# Altium schematic symbol library 变压器.SchLib: 8 symbols
Pins are listed as number, name and electrical type; pins without a type are passive.

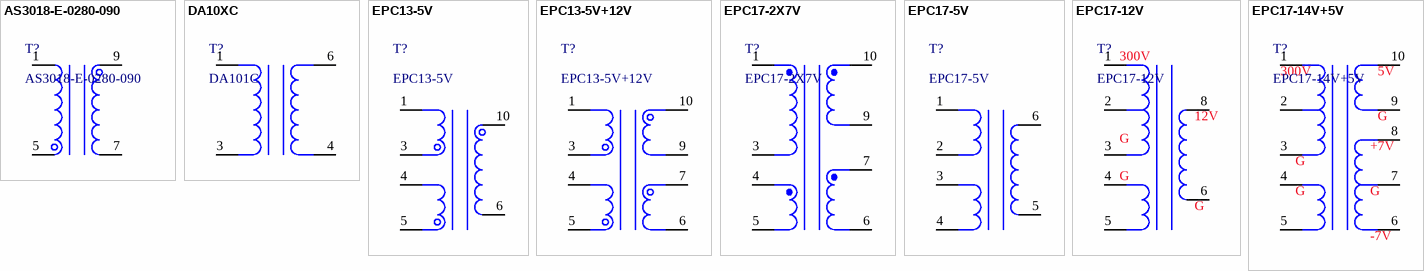
[diagram p0: symbols AS3018-E-0280-090 to EPC17-14V+5V]

## AS3018-E-0280-090
designator T?
9V 低频变压器; 版权归属: 源创客; ROM名称: 低频变压器; 学习资源: www.ooocke.com
footprint AS3018 (32mm*27.5mm*29mm(长*宽*高))
pins: 1, 5, 7, 9

## DA10XC
designator T?, comment DA101C
数字隔离变压器; 版权归属: 源创客; ROM名称: 数字隔离变压器; 学习资源: www.ooocke.com
footprint DA10XC (9mm*9.52mm*6.35mm(长*宽*高))
footprint DA10XMC (9mm*9.52mm*6.35mm(长*宽*高))
pins: 1, 3, 4, 6

## EPC13-5V
designator T?
5V 高频变压器; 版权归属: 源创客; ROM名称: 5V 高频变压器; 学习资源: www.ooocke.com
footprint EPC13-W-5+5 (磁芯13mm，高6mm，脚距2.5mm，排距10.5mm)
pins: 1, 3, 4, 5, 6, 10

## EPC13-5V+12V
designator T?
高频变压器; 版权归属: 源创客; ROM名称: 高频变压器; 学习资源: www.ooocke.com
footprint EPC13-W-8PIN (磁芯13mm，高6mm，脚距2.5mm，排距10.5mm)
pins: 1, 3, 4, 5, 6, 7, 9, 10

## EPC17-2X7V
designator T?
2X7V 高频变压器; 版权归属: 源创客; ROM名称: 2X7V 高频变压器; 学习资源: www.ooocke.com
footprint EPC17-W-5+5 (磁芯17mm，高10mm，脚距3mm，)
pins: 1, 3, 4, 5, 6, 7, 9, 10

## EPC17-5V
designator T?
12V 高频变压器; 版权归属: 源创客; ROM名称: 12V 高频变压器; 学习资源: www.ooocke.com
footprint EPC17-10V 5+5 (磁芯17mm，高10mm，脚距3mm，)
pins: 1, 2, 3, 4, 5, 6

## EPC17-12V
designator T?
12V 高频变压器; 版权归属: 源创客; ROM名称: 12V 高频变压器; 学习资源: www.ooocke.com
footprint EPC17-10V 5+5 (磁芯17mm，高10mm，脚距3mm，)
pins: 1, 2, 3, 4, 5, 6, 8
text: 300V; 12V; G

## EPC17-14V+5V
designator T?
14V+5V 高频变压器; 版权归属: 源创客; ROM名称: 14V+5V 高频变压器; 学习资源: www.ooocke.com
footprint EPC17-W-5+5 (磁芯17mm，高10mm，脚距3mm，)
pins: 1, 2, 3, 4, 5, 6, 7, 8, 9, 10
text: 300V; 5V; G; +7V; -7V